# EAGLE library part AD5258 (library ICs)
Digital Potentiometer 1k Ohm 1 Circuit 64 Taps I2C Interface 10-MSOP
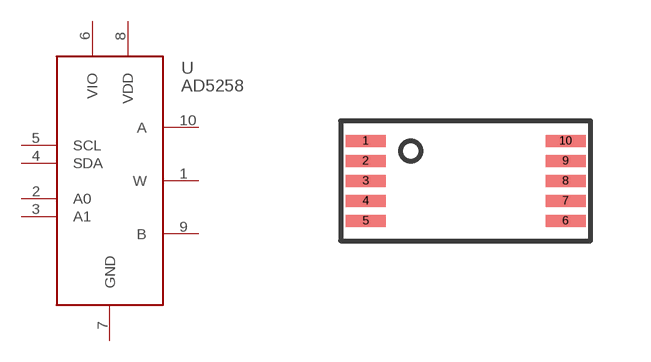
[diagram p331: symbol with the pads of MSOP10; footprint MSOP10]

Designator prefix U

## AD5258BRMZ1-R7 (DIGIKEY: AD5258BRMZ1-R7CT-ND; HEIGHT: 1; PRICE_PER: 1.86; VALUE: AD5258BRMZ1-R7)  [MSOP10]
1  W
2  A0
3  A1
4  SDA
5  SCL
6  VIO
7  GND
8  VDD
9  B
10  A

## Footprint MSOP10 (pad centres in mm)
smd 1 x 0.3: 1 -2.5,1; 2 -2.5,0.5; 3 -2.5,0; 4 -2.5,-0.5; 5 -2.5,-1; 6 2.5,-1; 7 2.5,-0.5; 8 2.5,0; 9 2.5,0.5; 10 2.5,1